# EAGLE library part ADA_ULTIMATE_GPS (library CameraTags)
Ultimate GPS from Adafruit - Breakout https://learn.adafruit.com/adafruit-ultimate-gps
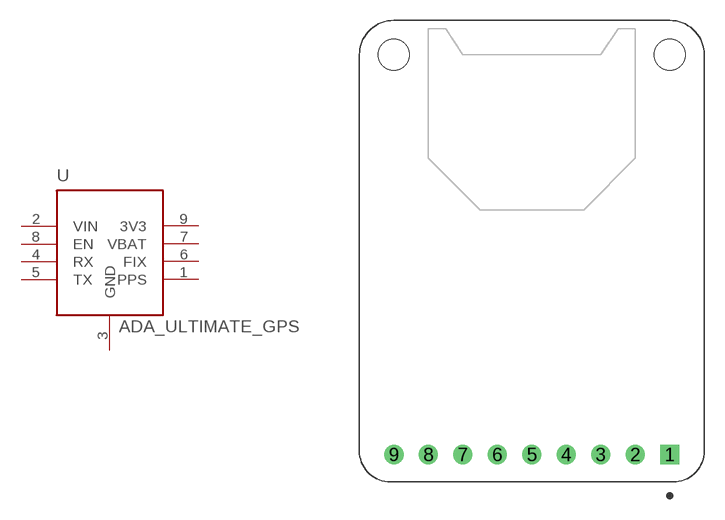
[diagram p12: symbol with the pads of ADA_ULTIMATE_GPS; footprint ADA_ULTIMATE_GPS]

Designator prefix U

## ADA_ULTIMATE_GPS9P_BREAKOUT  [ADA_ULTIMATE_GPS]
1  PPS
2  VIN
3  GND
4  RX
5  TX
6  FIX
7  VBAT
8  EN
9  3V3

## Footprint ADA_ULTIMATE_GPS (pad centres in mm)
Single-row, 9-pin Pin Header (Male) Straight, 2.54 mm (0.10 in) col pitch, 5.84 mm mating length, 25.40 X 5.08 X 8.38 mm body Single-row (1X9), 9-pin Pin Header (Male) Straight package with 2.54 mm (0.10 in) col pitch, 0.64 mm lead width, 3.00 mm tail length and 5.84 mm mating length with overall size 25.40 X 5.08 X 8.38 mm, pin pattern - clockwise from top left
drill 0.8 pad 1.422 square: 1 10.16,-15.494
drill 0.8 pad 1.422: 2 7.62,-15.494; 3 5.08,-15.494; 4 2.54,-15.494; 5 0,-15.494; 6 -2.54,-15.494; 7 -5.08,-15.494; 8 -7.62,-15.494; 9 -10.16,-15.494
hole 2.286 at -10.16,13.97
hole 2.286 at 10.16,13.97